# Altium footprint library Tank.PcbLib: 288 footprints (part 8 of 18)
Each footprint in its own frame and in the unit in brackets; x right, y up, seen from the top. Pads: shape width x height; smd on the part's side, far side on the other; paste and mask are expansions set on the pad; w line width, h text height; cw(c..) or ccw(c..) is an arc to the next point about the centre after c.
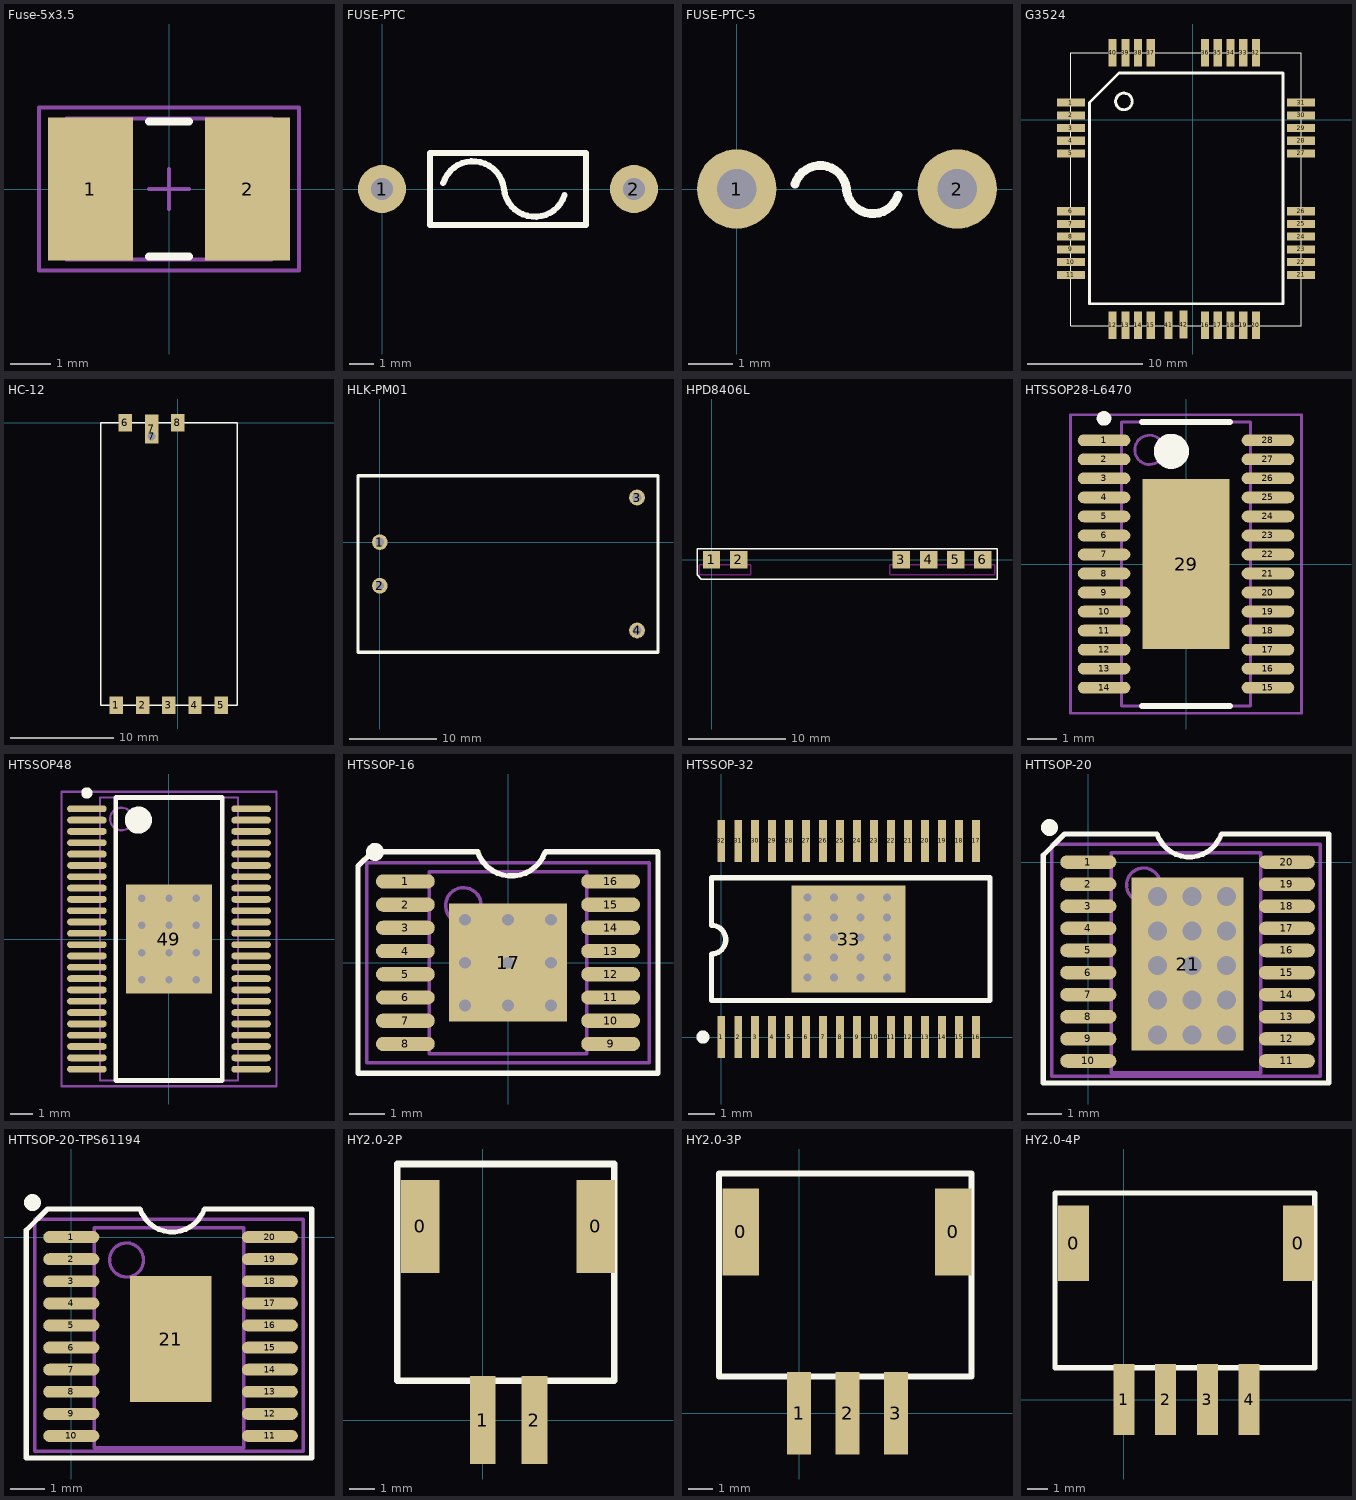
[diagram p7: the footprints below, top view; thin cyan lines are the x and y axes]

## Fuse-5x3.5 [mm]
height 2.9
pads (2):
  rect 2.1x3.55 smd: 1(-1.95,0) 2(1.95,0)
Top Overlay:
  lines w0.2: -0.5,-1.675 0.5,-1.675 ; -0.5,1.675 0.5,1.675
Mechanical 13:
  lines w0.1: -2.55,-1.75 -2.55,1.75 2.55,1.75 2.55,-1.75 -2.55,-1.75
Mechanical 15:
  lines w0.1: -0.5,0 0.5,0 ; 0,-0.5 0,0.5 ; -3.225,-2.025 -3.225,2.025 3.225,2.025 3.225,-2.025 -3.225,-2.025
3D body: height 2.9, standoff 0, extent -2.55,-1.75 2.55,1.75

## FUSE-PTC [mm]
pads (2):
  round 2 hole 0.92: 1(0,0) 2(10.5,0)
Top Overlay:
  lines w0.254: 2.549,0.251 cw(c3.788,-0.144) 5.08,0 ccw(c6.372,0.144) 7.611,-0.251 ; 2,-1.5 8,-1.5 8.5,-1.5 8.5,1.5 2,1.5 2,-1.5

## FUSE-PTC-5 [mm]
pads (2):
  round 1.8 hole 0.9: 1(0,0) 2(5,0)
Top Overlay:
  lines w0.2: 1.321,0.116 cw(c1.893,-0.066) 2.489,0 ; 2.489,-0.025 ccw(c3.086,0.041) 3.657,-0.141

## G3524 [mm]
pads (42):
  rect 2.4x0.7 smd: 1(-10.55,1.5) 2(-10.55,0.4) 3(-10.55,-0.7) 4(-10.55,-1.8) 5(-10.55,-2.9) 6(-10.55,-7.9) 7(-10.55,-9) 8(-10.55,-10.1) 9(-10.55,-11.2) 10(-10.55,-12.3) 11(-10.55,-13.4) 21(9.35,-13.4) 22(9.35,-12.3) 23(9.35,-11.2) 24(9.35,-10.1) 25(9.35,-9) 26(9.35,-7.9) 27(9.35,-2.9) 28(9.35,-1.8) 29(9.35,-0.7) 30(9.35,0.4) 31(9.35,1.5)
  rect 0.7x2.4 smd: 12(-6.95,-17.75) 13(-5.85,-17.75) 14(-4.75,-17.75) 15(-3.65,-17.75) 16(1.05,-17.75) 17(2.15,-17.75) 18(3.25,-17.75) 19(4.35,-17.75) 20(5.45,-17.75) 32(5.45,5.8) 33(4.35,5.8) 34(3.25,5.8) 35(2.15,5.8) 36(1.05,5.8) 37(-3.65,5.8) 38(-4.75,5.8) 39(-5.85,5.8) 40(-6.95,5.8) 41(-2.1,-17.75) 42(-0.8,-17.7)
Top Overlay:
  circle w0.254: c-5.968,1.6 r0.718
  lines w0.1: -10.55,-17.8 9.25,-17.8 9.35,-17.8 9.35,5.8 9.25,5.8 -10.55,5.8 -10.55,-17.8
  lines w0.254: -8.95,-15.9 7.8,-15.9 7.8,4.05 -6.4,4.05 -8.95,1.5 -8.95,-15.9

## HC-12 [mm]
pads (9):
  rect 1.3x1.7 smd: 1(-5.953,-27.4) 2(-3.413,-27.4) 3(-0.873,-27.4) 4(1.667,-27.4) 5(4.207,-27.4) 6(-5.08,0) 8(-0.013,0)
  rect 1.2x1.2 hole 0.8: 7(-2.54,-1.3)
  rect 1.3x2.8 smd: 7(-2.54,-0.6)
Top Overlay:
  lines w0.152: -7.453,-27.4 5.747,-27.4 5.747,0 -7.453,0 -7.453,-27.4

## HLK-PM01 [mm]
pads (4):
  round 1.8 hole 1: 1(0,0) 2(0,-5) 3(29.4,5.1) 4(29.4,-10.1)
Top Overlay:
  lines w0.4: -2.5,-12.573 31.8,-12.573 31.8,7.569 -2.5,7.569 -2.5,-12.573

## HPD8406L [mm]
pads (6):
  rect 1.8x1.8 smd: 1(0,0) 2(2.8,0) 3(19.6,0) 4(22.4,0) 5(25.2,0) 6(28,0)
Top Overlay:
  lines w0.152: -1.499,-1.575 -1.041,-2.032 2.337,-2.032 29.464,-2.032 29.464,1.143 26.67,1.143 24.689,1.143 -1.499,1.143 -1.499,-1.575
Keep-Out Layer:
  lines w0.152: -1.245,-1.575 -1.245,-0.533 4.039,-0.533 4.039,-1.575 -1.245,-1.575 ; 18.415,-1.575 29.235,-1.575 29.235,-0.533 18.415,-0.533 18.415,-1.575

## HTSSOP28-L6470 [mm]
height 2.65
pads (29):
  oval 1.8x0.4 smd: 1(-2.8,4.225) 2(-2.8,3.575) 3(-2.8,2.925) 4(-2.8,2.275) 5(-2.8,1.625) 6(-2.8,0.975) 7(-2.8,0.325) 8(-2.8,-0.325) 9(-2.8,-0.975) 10(-2.8,-1.625) 11(-2.8,-2.275) 12(-2.8,-2.925) 13(-2.8,-3.575) 14(-2.8,-4.225) 15(2.8,-4.225) 16(2.8,-3.575) 17(2.8,-2.925) 18(2.8,-2.275) 19(2.8,-1.625) 20(2.8,-0.975) 21(2.8,-0.325) 22(2.8,0.325) 23(2.8,0.975) 24(2.8,1.625) 25(2.8,2.275) 26(2.8,2.925) 27(2.8,3.575) 28(2.8,4.225)
  rect 2.973x5.8 smd: 29(0,0)
Top Overlay:
  circle w0.25: c-2.8,4.975 r0.125
  circle w0.6: c-0.5,3.85 r0.3
  lines w0.2: -1.5,-4.85 1.5,-4.85 ; -1.5,4.85 1.5,4.85
Mechanical 13:
  circle w0.1: c-1.25,3.9 r0.5
  lines w0.1: -2.2,-4.85 -2.2,4.85 2.2,4.85 2.2,-4.85 -2.2,-4.85
Mechanical 15:
  lines w0.1: -0.5,0 0.5,0 ; 0,-0.5 0,0.5 ; -3.95,-5.1 -3.95,5.1 3.95,5.1 3.95,-5.1 -3.95,-5.1
3D body: height 2.65, standoff 0.19, extent -2.2,-4.85 2.2,4.85

## HTSSOP48 [mm] "SSOP, 48-Leads, Body 12.5x6.1mm (max), Pitch 0.50mm, IPC Medium Density"
height 2.65
pads (49):
  oval 1.75x0.3 smd: 1(-3.625,5.75) 2(-3.625,5.25) 3(-3.625,4.75) 4(-3.625,4.25) 5(-3.625,3.75) 6(-3.625,3.25) 7(-3.625,2.75) 8(-3.625,2.25) 9(-3.625,1.75) 10(-3.625,1.25) 11(-3.625,0.75) 12(-3.625,0.25) 13(-3.625,-0.25) 14(-3.625,-0.75) 15(-3.625,-1.25) 16(-3.625,-1.75) 17(-3.625,-2.25) 18(-3.625,-2.75) 19(-3.625,-3.25) 20(-3.625,-3.75) 21(-3.625,-4.25) 22(-3.625,-4.75) 23(-3.625,-5.25) 24(-3.625,-5.75) 25(3.625,-5.75) 26(3.625,-5.25) 27(3.625,-4.75) 28(3.625,-4.25) 29(3.625,-3.75) 30(3.625,-3.25) 31(3.625,-2.75) 32(3.625,-2.25) 33(3.625,-1.75) 34(3.625,-1.25) 35(3.625,-0.75) 36(3.625,-0.25) 37(3.625,0.25) 38(3.625,0.75) 39(3.625,1.25) 40(3.625,1.75) 41(3.625,2.25) 42(3.625,2.75) 43(3.625,3.25) 44(3.625,3.75) 45(3.625,4.25) 46(3.625,4.75) 47(3.625,5.25) 48(3.625,5.75)
  rect 3.8x4.8 smd: 49(0,0)
via 1.2,-1.8 diameter 0.66 hole 0.33
via 0,-1.8 diameter 0.66 hole 0.33
via -1.2,-1.8 diameter 0.66 hole 0.33
via 1.2,-0.6 diameter 0.66 hole 0.33
via 0,-0.6 diameter 0.66 hole 0.33
via -1.2,-0.6 diameter 0.66 hole 0.33
via 1.2,0.6 diameter 0.66 hole 0.33
via 0,0.6 diameter 0.66 hole 0.33
via -1.2,0.6 diameter 0.66 hole 0.33
via 1.2,1.8 diameter 0.66 hole 0.33
via 0,1.8 diameter 0.66 hole 0.33
via -1.2,1.8 diameter 0.66 hole 0.33
Top Overlay:
  circle w0.6: c-1.35,5.25 r0.3
  circle w0.25: c-3.625,6.45 r0.125
  lines w0.2: -2.35,-6.25 2.35,-6.25 2.35,6.25 -2.35,6.25 -2.35,-6.25
Mechanical 13:
  circle w0.1: c-2.1,5.3 r0.5
  lines w0.1: -3.05,-6.25 3.05,-6.25 3.05,6.25 -3.05,6.25 -3.05,-6.25
Mechanical 15:
  lines w0.1: -0.5,0 0.5,0 ; 0,-0.5 0,0.5 ; -4.75,-6.5 4.75,-6.5 4.75,6.5 -4.75,6.5 -4.75,-6.5
3D body: height 2.65, standoff 0.1, extent -3.05,-6.25 3.05,6.25

## HTSSOP-16 [mm]
height 2.65
pads (17):
  oval 1.65x0.4 smd: 1(-2.875,2.275) 2(-2.875,1.625) 3(-2.875,0.975) 4(-2.875,0.325) 5(-2.875,-0.325) 6(-2.875,-0.975) 7(-2.875,-1.625) 8(-2.875,-2.275) 9(2.875,-2.275) 10(2.875,-1.625) 11(2.875,-0.975) 12(2.875,-0.325) 13(2.875,0.325) 14(2.875,0.975) 15(2.875,1.625) 16(2.875,2.275)
  rect 3.3x3.3 smd: 17(0,0)
via 1.2,-1.2 diameter 0.66 hole 0.33
via 0,-1.2 diameter 0.66 hole 0.33
via -1.2,-1.2 diameter 0.66 hole 0.33
via 1.2,0 diameter 0.66 hole 0.33
via 0,0 diameter 0.66 hole 0.33
via -1.2,0 diameter 0.66 hole 0.33
via 1.2,1.2 diameter 0.66 hole 0.33
via 0,1.2 diameter 0.66 hole 0.33
via -1.2,1.2 diameter 0.66 hole 0.33
Top Overlay:
  circle w0.25: c-3.725,3.1 r0.125
  lines w0.152: -0.85,3.1 -3.8,3.1 -4.2,2.7 -4.2,-3.1 4.2,-3.1 4.2,3.1 1.05,3.1 ; -0.845,3.084 ccw(c0.095,3.425) 1.036,3.087
Mechanical 13:
  circle w0.1: c-1.25,1.6 r0.5
  lines w0.1: -2.2,-2.55 2.2,-2.55 2.2,2.55 -2.2,2.55 -2.2,-2.55
Mechanical 15:
  lines w0.1: -0.5,0 0.5,0 ; 0,-0.5 0,0.5 ; -3.95,-2.8 3.95,-2.8 3.95,2.8 -3.95,2.8 -3.95,-2.8
3D body: height 2.65, standoff 0.1, extent -2.2,-2.55 2.2,2.55

## HTSSOP-32 [mm]
pads (33):
  rect 0.3x1.6 smd: 1(0,0) 2(0.65,0) 3(1.3,0) 4(1.95,0) 5(2.6,0) 6(3.25,0) 7(3.9,0) 8(4.55,0) 9(5.2,0) 10(5.85,0) 11(6.5,0) 12(7.15,0) 13(7.8,0) 14(8.45,0) 15(9.1,0) 16(9.75,0) 17(9.75,7.5) 18(9.1,7.5) 19(8.45,7.5) 20(7.8,7.5) 21(7.15,7.5) 22(6.5,7.5) 23(5.85,7.5) 24(5.2,7.5) 25(4.55,7.5) 26(3.9,7.5) 27(3.25,7.5) 28(2.6,7.5) 29(1.95,7.5) 30(1.3,7.5) 31(0.65,7.5) 32(0,7.5)
  rect 4.36x4.11 smd: 33(4.875,3.75)
via 3.302,5.334 diameter 0.508 hole 0.305
via 3.302,4.572 diameter 0.508 hole 0.305
via 3.302,3.81 diameter 0.508 hole 0.305
via 3.302,3.048 diameter 0.508 hole 0.305
via 3.302,2.286 diameter 0.508 hole 0.305
via 4.318,5.334 diameter 0.508 hole 0.305
via 4.318,4.572 diameter 0.508 hole 0.305
via 4.318,3.81 diameter 0.508 hole 0.305
via 4.318,3.048 diameter 0.508 hole 0.305
via 4.318,2.286 diameter 0.508 hole 0.305
via 5.334,2.286 diameter 0.508 hole 0.305
via 5.334,3.048 diameter 0.508 hole 0.305
via 5.334,3.81 diameter 0.508 hole 0.305
via 5.334,4.572 diameter 0.508 hole 0.305
via 5.334,5.334 diameter 0.508 hole 0.305
via 6.35,5.334 diameter 0.508 hole 0.305
via 6.35,4.572 diameter 0.508 hole 0.305
via 6.35,3.81 diameter 0.508 hole 0.305
via 6.35,3.048 diameter 0.508 hole 0.305
via 6.35,2.286 diameter 0.508 hole 0.305
Top Overlay:
  circle w0.25: c-0.7,0 r0.125
  lines w0.2: -0.375,1.397 -0.375,3.175 ccw(c-0.375,3.725) -0.375,4.275 -0.375,6.096 10.287,6.096 10.287,1.397 -0.375,1.397

## HTTSOP-20 [mm]
pads (21):
  oval 1.65x0.4 smd: 1(0,0) 2(0,-0.65) 3(0,-1.3) 4(0,-1.95) 5(0,-2.6) 6(0,-3.25) 7(0,-3.9) 8(0,-4.55) 9(0,-5.2) 10(0,-5.85) 11(5.842,-5.85) 12(5.842,-5.2) 13(5.842,-4.55) 14(5.842,-3.9) 15(5.842,-3.25) 16(5.842,-2.6) 17(5.842,-1.95) 18(5.842,-1.3) 19(5.842,-0.65) 20(5.842,0)
  rect 3.3x5.08 smd: 21(2.921,-3)
via 2.032,-1.016 diameter 0.762 hole 0.559
via 3.048,-1.016 diameter 0.762 hole 0.559
via 4.064,-1.016 diameter 0.762 hole 0.559
via 2.032,-2.032 diameter 0.762 hole 0.559
via 3.048,-2.032 diameter 0.762 hole 0.559
via 4.064,-2.032 diameter 0.762 hole 0.559
via 2.032,-3.048 diameter 0.762 hole 0.559
via 3.048,-3.048 diameter 0.762 hole 0.559
via 4.064,-3.048 diameter 0.762 hole 0.559
via 2.032,-4.064 diameter 0.762 hole 0.559
via 3.048,-4.064 diameter 0.762 hole 0.559
via 4.064,-4.064 diameter 0.762 hole 0.559
via 2.032,-5.08 diameter 0.762 hole 0.559
via 3.048,-5.08 diameter 0.762 hole 0.559
via 4.064,-5.08 diameter 0.762 hole 0.559
Top Overlay:
  circle w0.25: c-1.141,1.016 r0.125
  lines w0.152: 2.025,0.825 -0.699,0.825 -1.325,0.199 -1.325,-6.5 7.075,-6.5 7.075,0.825 3.925,0.825 ; 2.03,0.809 ccw(c2.97,1.15) 3.911,0.812
Mechanical 13:
  circle w0.1: c1.625,-0.675 r0.5
  lines w0.1: 0.675,-6.2 0.675,0.275 5.075,0.275 5.075,-6.2 0.675,-6.2
Mechanical 15:
  lines w0.1: 2.375,-2.275 3.375,-2.275 ; 2.875,-2.775 2.875,-1.775 ; -1.075,-6.3 -1.075,0.525 6.825,0.525 6.825,-6.3 -1.075,-6.3
3D body: height 2.65, standoff 0.1, extent 0.635,-6.2 5.08,0.275

## HTTSOP-20-TPS61194 [mm]
pads (21):
  oval 1.65x0.35 smd: 1(0,0) 2(0,-0.65) 3(0,-1.3) 4(0,-1.95) 5(0,-2.6) 6(0,-3.25) 7(0,-3.9) 8(0,-4.55) 9(0,-5.2) 10(0,-5.85) 11(5.842,-5.85) 12(5.842,-5.2) 13(5.842,-4.55) 14(5.842,-3.9) 15(5.842,-3.25) 16(5.842,-2.6) 17(5.842,-1.95) 18(5.842,-1.3) 19(5.842,-0.65) 20(5.842,0)
  rect 2.4x3.7 smd: 21(2.921,-3)
Top Overlay:
  circle w0.25: c-1.141,1.016 r0.125
  lines w0.152: 2.025,0.825 -0.699,0.825 -1.325,0.199 -1.325,-6.5 7.075,-6.5 7.075,0.825 3.925,0.825 ; 2.03,0.809 ccw(c2.97,1.15) 3.911,0.812
Mechanical 13:
  circle w0.1: c1.625,-0.675 r0.5
  lines w0.1: 0.675,-6.2 5.075,-6.2 5.075,0.275 0.675,0.275 0.675,-6.2
Mechanical 15:
  lines w0.1: 2.375,-2.275 3.375,-2.275 ; 2.875,-2.775 2.875,-1.775 ; -1.075,-6.3 6.825,-6.3 6.825,0.525 -1.075,0.525 -1.075,-6.3
3D body: height 2.65, standoff 0.1, extent 0.635,-6.2 5.08,0.275

## HY2.0-2P [mm]
pads (4):
  rect 1.5x3.6 smd: 0(-2.413,7.493) 0(4.369,7.493)
  rect 1x3.4 smd: 1(0,0) 2(2,0)
Top Overlay:
  lines w0.254: -3.302,1.524 -3.302,9.906 5.08,9.906 5.08,1.524 -3.302,1.524

## HY2.0-3P [mm]
pads (5):
  rect 1.5x3.6 smd: 0(-2.413,7.493) 0(6.369,7.493)
  rect 1x3.4 smd: 1(0,0) 2(2,0) 3(4,0)
Top Overlay:
  lines w0.254: -3.302,1.524 -3.302,9.906 7.112,9.906 7.112,1.524 -3.302,1.524

## HY2.0-4P [mm]
pads (6):
  rect 1.5x3.6 smd: 0(-2.413,7.493) 0(8.369,7.493)
  rect 1x3.4 smd: 1(0,0) 2(2,0) 3(4,0) 4(6,0)
Top Overlay:
  lines w0.254: -3.302,1.524 9.144,1.524 9.144,9.906 -3.302,9.906 -3.302,1.524